# Altium footprint library Cnverter.PcbLib: 105 footprints (part 5 of 7)
Each footprint in its own frame and in the unit in brackets; x right, y up, seen from the top. Pads: shape width x height; smd on the part's side, far side on the other; paste and mask are expansions set on the pad; w line width, h text height; cw(c..) or ccw(c..) is an arc to the next point about the centre after c.
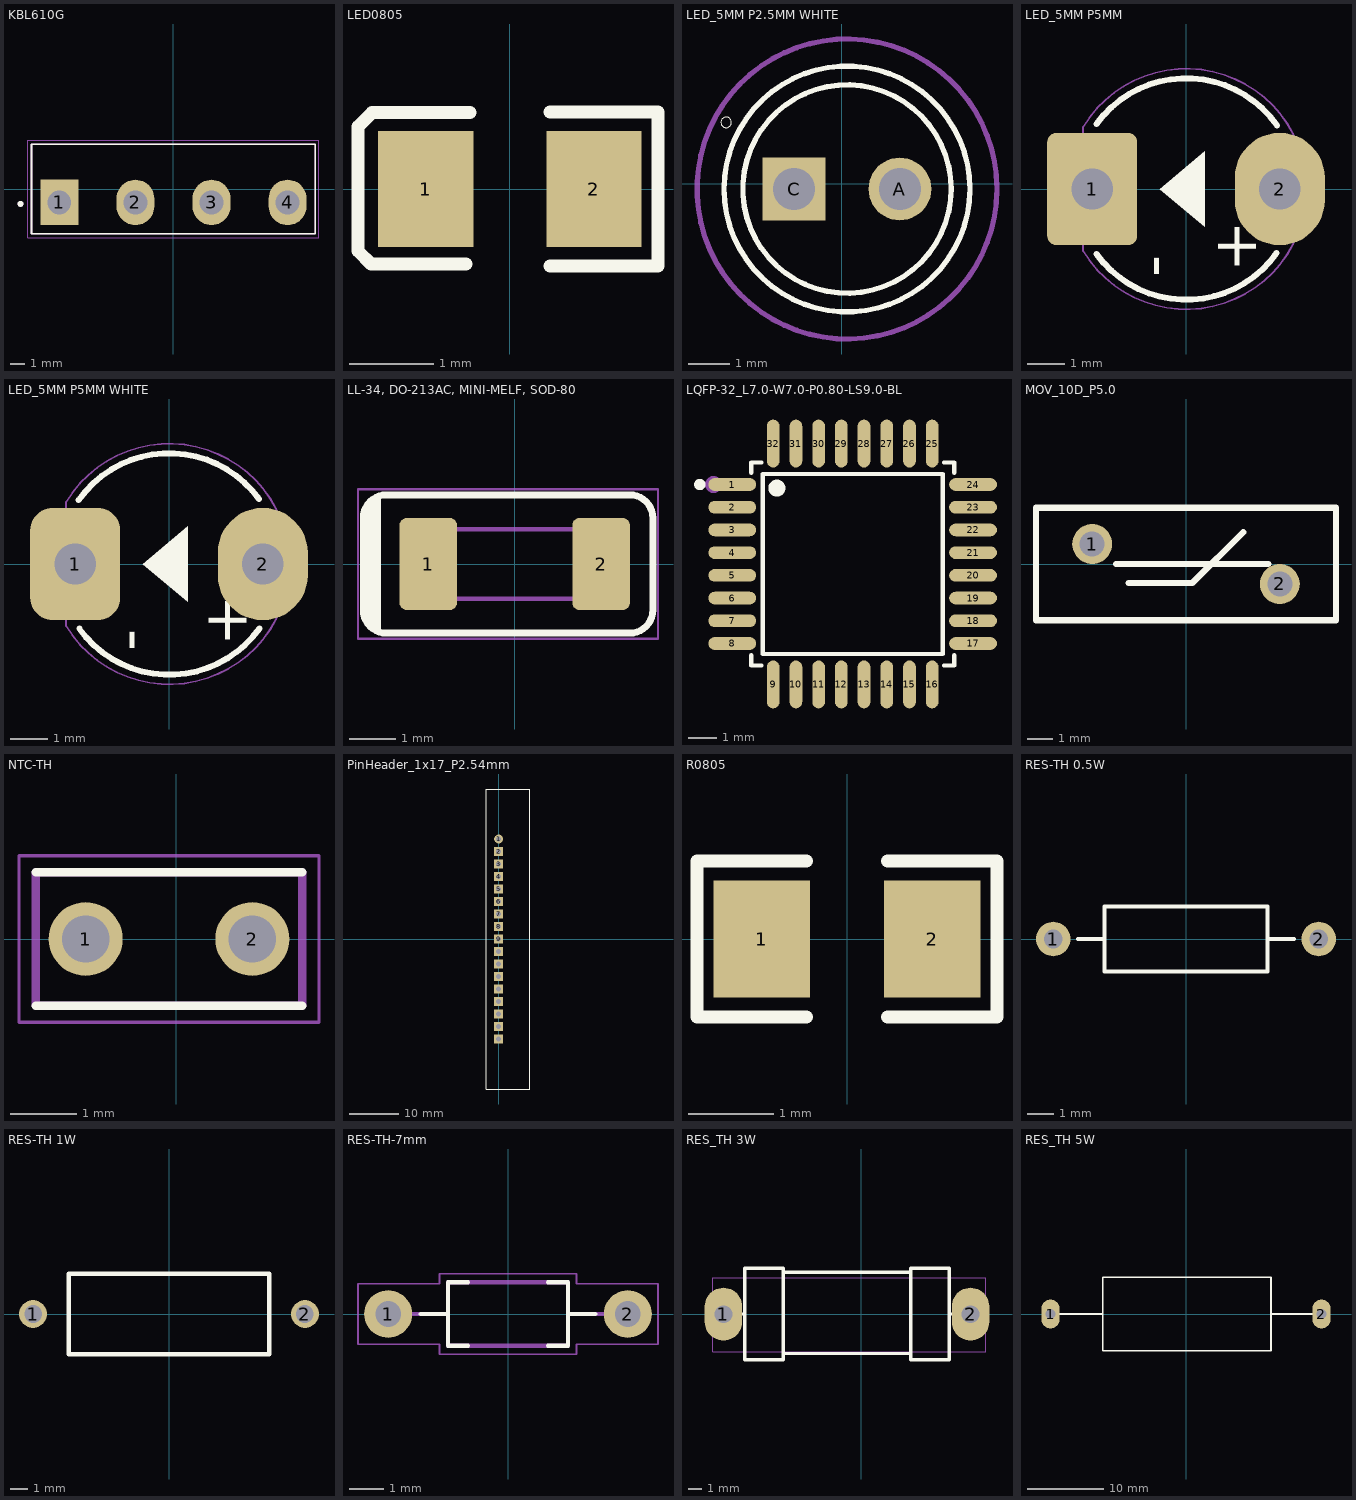
[diagram p4: the footprints below, top view; thin cyan lines are the x and y axes]

## KBL610G [mm]
pads (4):
  rect 2.54x3.048 hole 1.6: 1(-7.65,-0.9)
  oval 2.54x3.048 hole 1.6: 2(-2.55,-0.9) 3(2.55,-0.9) 4(7.65,-0.9)
Top Overlay:
  circle w0.2: c-10.25,-1 r0.1
  lines w0.127: -9.5,-3 -9.5,3 9.5,3 9.5,-3 -9.5,-3
Top Assembly:
  circle w0.2: c-10.25,-1 r0.1
  lines w0.127: -9.5,-3 -9.5,3 9.5,3 9.5,-3 -9.5,-3
Top Courtyard:
  lines w0.05: -9.75,-3.25 -9.75,3.25 9.75,3.25 9.75,-3.25 -9.75,-3.25
3D body "step_temp.STEP": height 16.3, standoff -23, extent -9.5,-3 9.5,3

## LED0805 [mm]
pads (2):
  rect 1.133x1.377 smd paste-100 mask+0.051: 1(-1,0) 2(1,0)
Top Overlay:
  lines w0.152: 0.476,-0.917 1.761,-0.917 1.761,0.917 0.476,0.917
  lines w0.154: -0.523,-0.894 -1.648,-0.894 -1.805,-0.737 -1.805,0.741 -1.639,0.908 -0.476,0.908
3D body "598-8170-107F.STEP": height 0.7, standoff 0, extent -0.993,-0.608 1.007,0.642

## LED_5MM P2.5MM WHITE [mil]
pads (2):
  round 59.37 hole 39.37: A(55,-5)
  rect 59.37x59.37 hole 39.37: C(-45,-5)
Top Overlay:
  circle w5: c5,-5 r116.14
  circle w5: c5,-5 r98.43
  circle w0: c-109.17,57.99 r5
Top Courtyard:
  circle w5: c5,-5 r141.73
3D body "step_temp.STEP": height 377.95, standoff -1023.62, extent -93.43,-121.14 121.14,111.14

## LED_5MM P5MM [mm] "LED_5mm P5MM"
pads (2):
  rrect20% 2.4x3 hole 1.1: 1(-2.5,0)
  oval 2.4x3 hole 1.1: 2(2.5,0)
Top Overlay:
  region: 0.5,1 -0.7,0 0.5,-1
  lines w0.16: -2.384,-1.738 ccw(c0.006,0) 2.416,-1.711 ; -2.384,1.738 cw(c0.006,0) 2.424,1.699
  text "+" at 1.875,-2.225 h1.2
  text "-" at -0.325,-2.35 h1.2
Top Assembly:
  circle w0.2: c-3.2,0 r0.1
Top Courtyard:
  lines w0.05: -2.75,-1.64 -2.75,1.64 ; -2.743,-1.652 ccw(c0.007,0) -2.743,1.652
3D body "JesusMC_led 5mm v1.step": height 21.5, standoff -3, extent -2.494,-2.898 2.894,2.898

## LED_5MM P5MM WHITE [mm] "LED_5mm P5MM WHITE"
pads (2):
  rrect50% 2.4x3 hole 1.1: 1(-2.5,0)
  oval 2.4x3 hole 1.1: 2(2.5,0)
Top Overlay:
  region: 0.5,1 -0.7,0 0.5,-1
  lines w0.16: -2.407,1.705 cw(c0.006,0) 2.404,1.728 ; -2.392,-1.726 ccw(c0.006,0) 2.412,-1.716
  text "+" at 2.075,-2.2 h1.2
  text "-" at -0.525,-2.325 h1.2
Top Assembly:
  circle w0.2: c-3.2,0 r0.1
Top Courtyard:
  lines w0.05: -2.75,-1.64 -2.75,1.64 ; -2.743,-1.652 ccw(c0.007,0) -2.743,1.652
3D body "5mm LED.stp": height 12.6, standoff -7, extent -2.493,-2.939 2.957,2.939

## LL-34, DO-213AC, MINI-MELF, SOD-80 [mm] "LL-34, DO-213AC, MINI-MELF, SOD-80"
pads (2):
  rrect25% 1.25x2 smd: 1(-1.875,0) 2(1.875,0)
Top Overlay:
  rectangle: -3.301,-1.175 -2.906,1.2
  region: -2.906,1 -2.906,1.437 -2.941,1.472 -3.028,1.472 -3.286,1
  region: -2.906,-1.006 -2.906,-1.444 -2.941,-1.478 -3.028,-1.478 -3.286,-1.006
  lines w0.15: -3.286,-1 ccw(c-2.786,-1) -2.786,-1.5 2.5,-1.5 ccw(c2.5,-1) 3,-1 3,1 ccw(c2.5,1) 2.5,1.5 -2.786,1.5 ccw(c-2.786,1) -3.286,1 -3.286,-1
Top Assembly:
  lines w0.1: -1.75,-0.75 1.75,-0.75 1.75,0.75 -1.75,0.75 -1.75,-0.75
Top Courtyard:
  lines w0.05: -3.4,-1.621 -3.4,1.621 3.111,1.621 3.111,-1.621 -3.4,-1.621
3D body "TZMB22-GS08.stp": height 1.5, standoff 0, extent -1.75,-0.735 1.75,0.735

## LQFP-32_L7.0-W7.0-P0.80-LS9.0-BL [mm]
pads (32):
  oval 1.684x0.448 smd paste+0 mask+0.051: 1(441.576,-416.643) 2(441.576,-417.443) 3(441.576,-418.243) 4(441.576,-419.043) 5(441.576,-419.843) 6(441.576,-420.643) 7(441.576,-421.443) 8(441.576,-422.243) 17(450.06,-422.243) 18(450.06,-421.443) 19(450.06,-420.643) 20(450.06,-419.843) 21(450.06,-419.043) 22(450.06,-418.243) 23(450.06,-417.443) 24(450.06,-416.643)
  oval 0.448x1.684 smd paste+0 mask+0.051: 9(443.018,-423.685) 10(443.818,-423.685) 11(444.618,-423.685) 12(445.418,-423.685) 13(446.218,-423.685) 14(447.018,-423.685) 15(447.818,-423.685) 16(448.618,-423.685) 25(448.618,-415.201) 26(447.818,-415.201) 27(447.018,-415.201) 28(446.218,-415.201) 29(445.418,-415.201) 30(444.618,-415.201) 31(443.818,-415.201) 32(443.018,-415.201)
Top Overlay:
  circle w0.2: c440.434,-416.643 r0.1
  circle w0.3: c443.146,-416.772 r0.15
  lines w0.152: 442.241,-422.657 442.241,-423.019 442.603,-423.019 ; 442.241,-416.229 442.241,-415.867 442.603,-415.867 ; 449.032,-423.019 449.394,-423.019 449.394,-422.657 ; 449.032,-415.867 449.394,-415.867 449.394,-416.229 ; 442.646,-422.614 448.989,-422.614 448.989,-416.272 442.646,-416.272 442.646,-422.614
Top Courtyard:
  circle w0.3: c440.918,-416.643 r0.15
3D body "EG8010--3DModel-STEP-56544.STEP": height 1.6, standoff 0, extent 441.313,-423.934 450.313,-414.934

## MOV_10D_P5.0 [mm]
pads (2):
  round 1.6 hole 1 paste+0 mask+0.051: 1(-3.75,0.8) 2(3.75,-0.8)
Top Overlay:
  lines w0.254: -2.794,0 3.302,0 ; -2.286,-0.762 0.254,-0.762 2.286,1.27 ; -6,-2.25 6,-2.25 6,2.25 -6,2.25 -6,-2.25

## NTC-TH [mm]
pads (2):
  round 1.11 hole 0.71: 1(-1.355,0.004) 2(1.145,0.004)
Top Overlay:
  lines w0.127: -2.105,-0.996 1.895,-0.996 ; -2.105,1.004 1.895,1.004
Top Assembly:
  lines w0.127: -2.105,-0.996 1.895,-0.996 1.895,1.004 -2.105,1.004 -2.105,-0.996
Top Courtyard:
  lines w0.05: -2.355,-1.246 -2.355,1.254 2.145,1.254 2.145,-1.246 -2.355,-1.246
3D body "NXRT15XV103FA5B050.STEP": height 5, standoff -46, extent -2.073,-0.98 1.927,1.02

## PinHeader_1x17_P2.54mm [mm]
pads (17):
  round 1.8 hole 1: 1(0,20.32)
  rect 1.8x1.8 hole 1: 2(0,17.78) 3(0,15.24) 4(0,12.7) 5(0,10.16) 6(0,7.62) 7(0,5.08) 8(0,2.54) 9(0,0) 10(0,-2.54) 11(0,-5.08) 12(0,-7.62) 13(0,-10.16) 14(0,-12.7) 15(0,-15.24) 16(0,-17.78) 17(0,-20.32)
Top Overlay:
  lines w0.25: -2.54,-30.48 6.35,-30.48 6.35,30.48 -2.54,30.48 -2.54,-30.48
3D body "step_temp.STEP": height 33, standoff -5, extent -0.318,-30.5 4.782,30.5

## R0805 [mm]
pads (2):
  rect 1.133x1.377 smd paste-100 mask+0.051: 1(-1,0) 2(1,0)
Top Overlay:
  lines w0.152: -0.476,-0.917 -1.761,-0.917 -1.761,0.917 -0.476,0.917 ; 0.476,-0.917 1.761,-0.917 1.761,0.917 0.476,0.917
3D body "ERA-6AEB4531V.STEP": height 0.6, standoff 0, extent -0.99,-0.625 1.01,0.625

## RES-TH 0.5W [mm]
pads (2):
  round 1.3 hole 0.7 paste+0 mask+0.051: 1(-5,0) 2(5,0)
Top Overlay:
  lines w0.152: -4.064,0.003 -3.076,0.003 ; 3.076,-0.003 4.064,-0.003 ; -3.076,-1.226 3.076,-1.226 3.076,1.226 -3.076,1.226 -3.076,-1.226

## RES-TH 1W [mm]
pads (2):
  round 1.6 hole 1 paste+0 mask+0.05: 1(-7.75,0) 2(7.75,0)
Top Overlay:
  lines w0.254: -5.715,-2.286 5.715,-2.286 5.715,2.286 -5.715,2.286 -5.715,-2.286

## RES-TH-7mm [mm]
height 3.85
pads (2):
  round 1.397 hole 0.75: 1(-3.5,0) 2(3.5,0)
Top Overlay:
  lines w0.127: -2.55,0 -1.75,0 ; -1.17,-0.925 -1.75,-0.925 -1.75,0 ; -1.17,0.925 -1.75,0.925 -1.75,0 ; 1.17,-0.925 1.75,-0.925 1.75,0 ; 1.17,0.925 1.75,0.925 1.75,0 ; 2.55,0 1.75,0
Top Assembly:
  lines w0.127: -2.925,0 -1.75,0 ; 2.925,0 1.75,0 ; -1.75,0 -1.75,-0.925 1.75,-0.925 1.75,0 ; -1.75,0 -1.75,0.925 1.75,0.925 1.75,0
Top Courtyard:
  lines w0.05: -4.38,-0.88 -2,-0.88 -2,-1.175 2,-1.175 2,-0.88 4.38,-0.88 4.38,0.88 2,0.88 2,1.175 -2,1.175 -2,0.88 -4.38,0.88 -4.38,-0.88
3D body "step_temp.STEP": height 1.84, standoff -3.6, extent -3.723,-0.923 3.723,0.923

## RES_TH 3W [mm] "Res_TH 3W"
pads (2):
  oval 2.7x3.81 hole 1.27: 1(-9.906,0) 2(7.874,0)
Top Overlay:
  lines w0.2: -5.588,-2.841 3.556,-2.841
  lines w0.25: -9.662,0.009 -8.382,0.009 ; -5.588,3.009 3.556,3.009 ; 6.35,0.009 7.874,0 ; -8.382,-3.291 -8.382,3.309 -5.588,3.309 -5.588,-3.291 -8.382,-3.291 ; 3.556,-3.291 3.556,3.309 6.35,3.309 6.35,-3.291 3.556,-3.291
Top Courtyard:
  lines w0.051: -10.693,-2.692 -2.971,-2.692 8.967,-2.692 8.967,-0.889 8.967,2.616 -10.693,2.616 -10.693,-2.692
3D body "Resistor_15R_to_Proteus.STEP": height 5.72, standoff -1.67, extent -10.235,-2.365 8.25,2.415

## RES_TH 5W [mil] "Res_TH 3W"
pads (2):
  oval 95x150 hole 50: 1(-700,0) 2(700,0)
Top Overlay:
  lines w9.84: -700,0 -430,0 ; 440,0 700,0
  lines w10: -430,-190 440,-190 440,190 -430,190 -430,-190
3D body "Ceramic Power Resistor Axial Leads.stp": height 413.39, standoff -94.49, extent -715.75,-187.01 715.75,187.01